# Altium footprint library Resistor_Smd_M0603_I0201.PcbLib: 1 footprints
Each footprint in its own frame and in the unit in brackets; x right, y up, seen from the top. Pads: shape width x height; smd on the part's side, far side on the other; paste and mask are expansions set on the pad; w line width, h text height; cw(c..) or ccw(c..) is an arc to the next point about the centre after c.
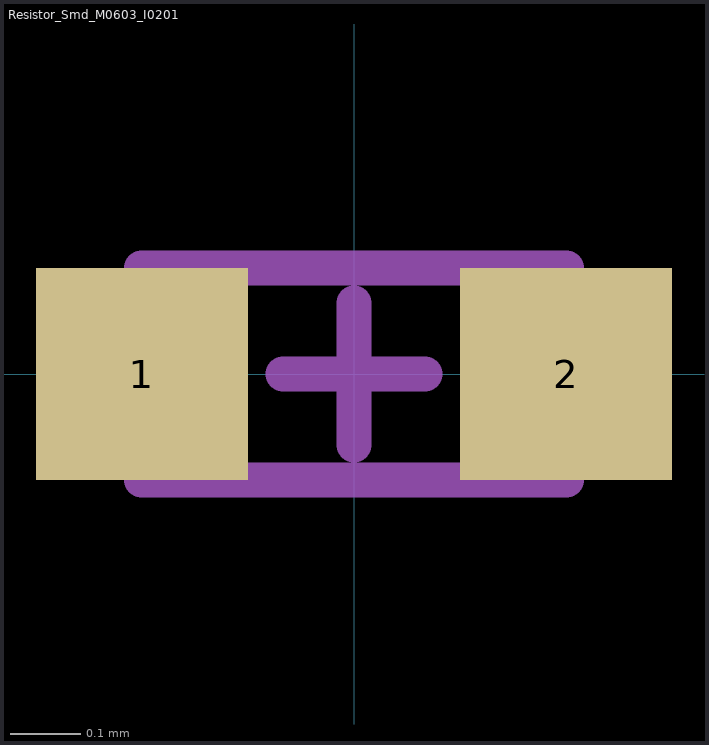
[diagram p0: the footprint, top view; thin cyan lines are the x and y axes]

## Resistor_Smd_M0603_I0201 [mm] "Resistor_Smd_M0603_I0201"
height 0.25
pads (2):
  rect 0.3x0.3 smd mask+0.05: 1(-0.3,0) 2(0.3,0)
Top Assembly:
  lines w0.05: -0.3,-0.15 0.3,-0.15 0.3,0.15 -0.3,0.15 -0.3,-0.15
Top Designator:
  text ".Designator" at -0.9,-0.688 h0.6
Top Component Center:
  lines w0.05: -0.1,0 0.1,0 ; 0,-0.1 0,0.1
3D body "Resistor_Smd_M0603_I0201.step": height 0.3, standoff 0, extent -0.3,-0.16 0.3,0.16